# Altium integrated library AP2152A.IntLib: 1 symbol
Pins are listed as number, name and electrical type; pins without a type are passive.

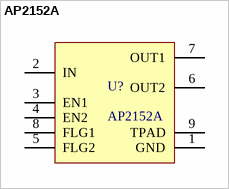
[diagram p0: symbol AP2152A]

## AP2152A
designator U?
Supplier 1: Farnell; Supplier 2: Digi-Key; Supplier 3: Mouser; Supplier Part Number 2: AP2152AMPG-13DITR-ND; Supplier Part Number 3: 621-AP2152AMPG-13
footprint SOP127P600-8N
pins: 1 GND, 2 IN, 3 EN1, 4 EN2, 5 FLG2, 6 OUT2, 7 OUT1, 8 FLG1, 9 TPAD